# EAGLE library part TSC2014IYZGT (library circuit_tree)
IC
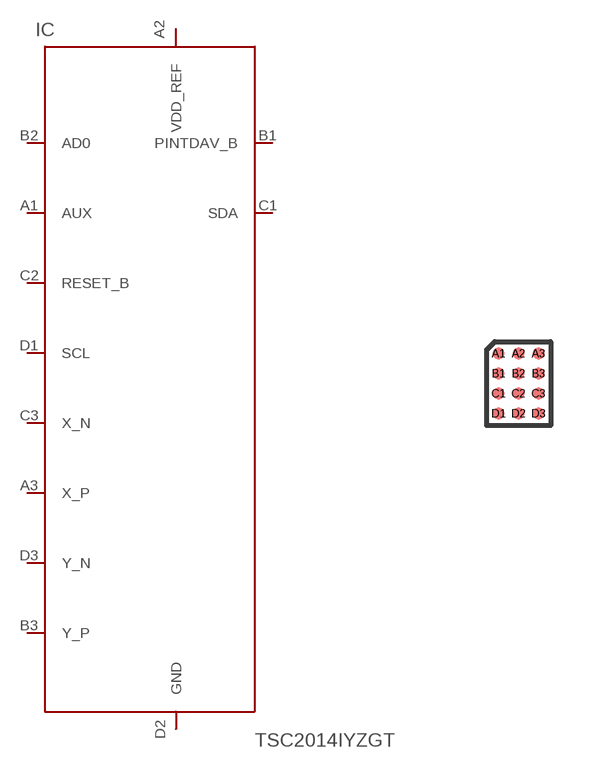
[diagram p6: symbol with the pads of TSC2014IYZGT; footprint TSC2014IYZGT]

Designator prefix IC

## TSC2014IYZGT  [TSC2014IYZGT]
A1  AUX  pas
A2  VDD_REF  pas
A3  X_P  pas
B1  PINTDAV_B  pas
B2  AD0  pas
B3  Y_P  pas
C1  SDA  pas
C2  RESET_B  pas
C3  X_N  pas
D1  SCL  pas
D2  GND  pas
D3  Y_N  pas

## Footprint TSC2014IYZGT (pad centres in mm)
smd 0.3 x 0.3: A1 0,0; A2 0.5,0; A3 1,0; B1 0,-0.5; B2 0.5,-0.5; B3 1,-0.5; C1 0,-1; C2 0.5,-1; C3 1,-1; D1 0,-1.5; D2 0.5,-1.5; D3 1,-1.5